# EAGLE library part PIC16F1769 (library yapo)
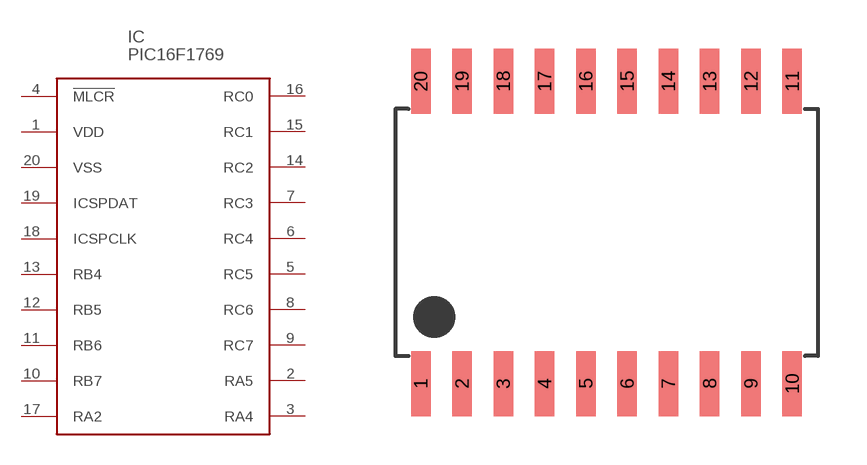
[diagram p86: symbol with the pads of SOIC-20W; footprint SOIC-20W]

Designator prefix IC

## PIC16F1769  [SOIC-20W]
1  VDD
2  RA5
3  RA4
4  !MLCR!
5  RC5
6  RC4
7  RC3
8  RC6
9  RC7
10  RB7
11  RB6
12  RB5
13  RB4
14  RC2
15  RC1
16  RC0
17  RA2
18  ICSPCLK
19  ICSPDAT
20  VSS

## Footprint SOIC-20W (pad centres in mm)
smd 0.6 x 2: 1 -5.715,-4.65; 2 -4.445,-4.65; 3 -3.175,-4.65; 4 -1.905,-4.65; 5 -0.635,-4.65; 6 0.635,-4.65; 7 1.905,-4.65; 8 3.175,-4.65; 9 4.445,-4.65; 10 5.715,-4.65; 11 5.715,4.65; 12 4.445,4.65; 13 3.175,4.65; 14 1.905,4.65; 15 0.635,4.65; 16 -0.635,4.65; 17 -1.905,4.65; 18 -3.175,4.65; 19 -4.445,4.65; 20 -5.715,4.65